# Altium schematic symbol library WE-MK.SchLib: 204 symbols (part 3 of 4)
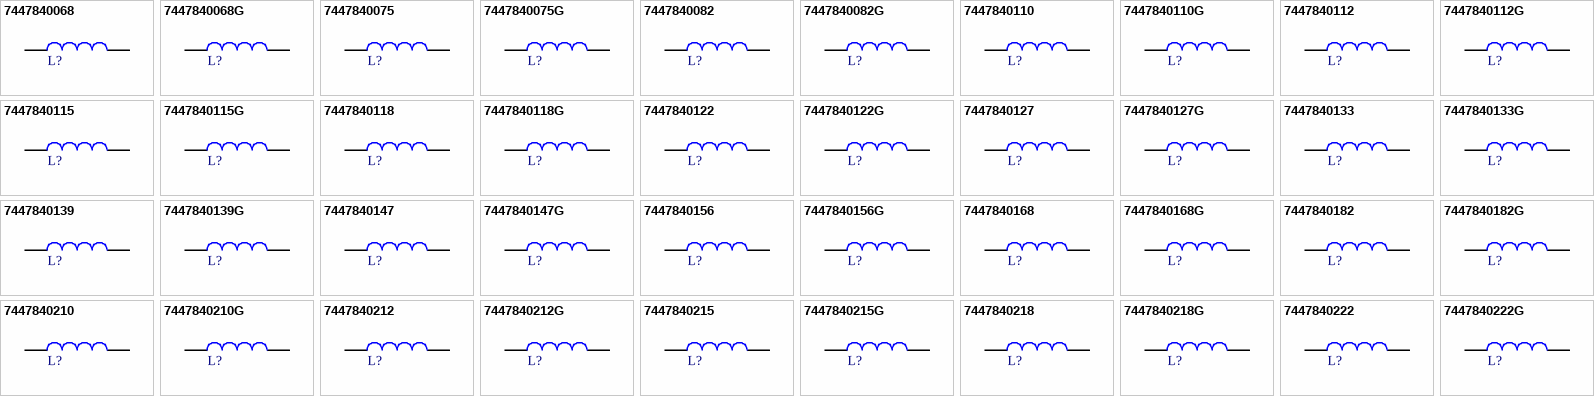
[diagram p7: symbols 7447840068 to 7447840222G]

## 7447840210G
designator L?, comment 100nH  (value not drawn)
WE-MK Multilayer Ceramic SMT Inductor, size 0402, 100nH, 0.15A, 1.6Ohm; Manufacturer Part Number: 7447840210G; Manufacturer: Wurth Elektronik; Case/Size Code: 0402; Inductance Tolerance: +/-2%; Q Factor: 8; Self Resonant Frequency: 600MHz; Category: RF Inductors; Match Code: WE-MK; ComponentLink1Description: Website Link; ComponentLink1URL: https://www.we-online.com/redexpert/article/7447840210G?ad; ComponentLink2Description: Datasheet Link; ComponentLink2URL: https://www.we-online.com/redexpert/spec/7447840210G?ad; Mount: Surface Mount; Operating Temperature Max: 125°C; Operating Temperature Min: -55°C; Packaging: Tape and Reel; Length: 1mm; Width: 0.5mm; Height: 0.5mm; DC Resistance Max: 1.6Ohm; Inductance: 100nH; Rated Current: 0.15A
footprint WE-MK_0402_L1W0.5H0.5
simulation model 0402_7447840210G_100n
pins: 1, 2

## 7447840212
designator L?, comment 120nH  (value not drawn)
WE-MK Multilayer Ceramic SMT Inductor, size 0402, 120nH, 0.15A, 1.6Ohm; Manufacturer Part Number: 7447840212; Manufacturer: Wurth Elektronik; Case/Size Code: 0402; Inductance Tolerance: +/-5%; Q Factor: 8; Self Resonant Frequency: 600MHz; Category: RF Inductors; Match Code: WE-MK; ComponentLink1Description: Website Link; ComponentLink1URL: https://www.we-online.com/redexpert/article/7447840212?ad; ComponentLink2Description: Datasheet Link; ComponentLink2URL: https://www.we-online.com/redexpert/spec/7447840212?ad; Mount: Surface Mount; Operating Temperature Max: 125°C; Operating Temperature Min: -55°C; Packaging: Tape and Reel; Length: 1mm; Width: 0.5mm; Height: 0.5mm; DC Resistance Max: 1.6Ohm; Inductance: 120nH; Rated Current: 0.15A
footprint WE-MK_0402_L1W0.5H0.5
simulation model 0402_7447840212_120n
pins: 1, 2

## 7447840212G
designator L?, comment 120nH  (value not drawn)
WE-MK Multilayer Ceramic SMT Inductor, size 0402, 120nH, 0.15A, 1.6Ohm; Manufacturer Part Number: 7447840212G; Manufacturer: Wurth Elektronik; Case/Size Code: 0402; Inductance Tolerance: +/-2%; Q Factor: 8; Self Resonant Frequency: 600MHz; Category: RF Inductors; Match Code: WE-MK; ComponentLink1Description: Website Link; ComponentLink1URL: https://www.we-online.com/redexpert/article/7447840212G?ad; ComponentLink2Description: Datasheet Link; ComponentLink2URL: https://www.we-online.com/redexpert/spec/7447840212G?ad; Mount: Surface Mount; Operating Temperature Max: 125°C; Operating Temperature Min: -55°C; Packaging: Tape and Reel; Length: 1mm; Width: 0.5mm; Height: 0.5mm; DC Resistance Max: 1.6Ohm; Inductance: 120nH; Rated Current: 0.15A
footprint WE-MK_0402_L1W0.5H0.5
simulation model 0402_7447840212G_120n
pins: 1, 2

## 7447840215
designator L?, comment 150nH  (value not drawn)
WE-MK Multilayer Ceramic SMT Inductor, size 0402, 150nH, 0.14A, 2.99Ohm; Manufacturer Part Number: 7447840215; Manufacturer: Wurth Elektronik; Case/Size Code: 0402; Inductance Tolerance: +/-5%; Q Factor: 8; Self Resonant Frequency: 500MHz; Category: RF Inductors; Match Code: WE-MK; ComponentLink1Description: Website Link; ComponentLink1URL: https://www.we-online.com/redexpert/article/7447840215?ad; ComponentLink2Description: Datasheet Link; ComponentLink2URL: https://www.we-online.com/redexpert/spec/7447840215?ad; Mount: Surface Mount; Operating Temperature Max: 125°C; Operating Temperature Min: -55°C; Packaging: Tape and Reel; Length: 1mm; Width: 0.5mm; Height: 0.5mm; DC Resistance Max: 2.99Ohm; Inductance: 150nH; Rated Current: 0.14A
footprint WE-MK_0402_L1W0.5H0.5
simulation model 0402_7447840215_150n
pins: 1, 2

## 7447840215G
designator L?, comment 150nH  (value not drawn)
WE-MK Multilayer Ceramic SMT Inductor, size 0402, 150nH, 0.14A, 2.99Ohm; Manufacturer Part Number: 7447840215G; Manufacturer: Wurth Elektronik; Case/Size Code: 0402; Inductance Tolerance: +/-2%; Q Factor: 8; Self Resonant Frequency: 500MHz; Category: RF Inductors; Match Code: WE-MK; ComponentLink1Description: Website Link; ComponentLink1URL: https://www.we-online.com/redexpert/article/7447840215G?ad; ComponentLink2Description: Datasheet Link; ComponentLink2URL: https://www.we-online.com/redexpert/spec/7447840215G?ad; Mount: Surface Mount; Operating Temperature Max: 125°C; Operating Temperature Min: -55°C; Packaging: Tape and Reel; Length: 1mm; Width: 0.5mm; Height: 0.5mm; DC Resistance Max: 2.99Ohm; Inductance: 150nH; Rated Current: 0.14A
footprint WE-MK_0402_L1W0.5H0.5
simulation model 0402_7447840215G_150n
pins: 1, 2

## 7447840218
designator L?, comment 180nH  (value not drawn)
WE-MK Multilayer Ceramic SMT Inductor, size 0402, 180nH, 0.15A, 3.38Ohm; Manufacturer Part Number: 7447840218; Manufacturer: Wurth Elektronik; Case/Size Code: 0402; Inductance Tolerance: +/-5%; Q Factor: 8; Self Resonant Frequency: 500MHz; Category: RF Inductors; Match Code: WE-MK; ComponentLink1Description: Website Link; ComponentLink1URL: https://www.we-online.com/redexpert/article/7447840218?ad; ComponentLink2Description: Datasheet Link; ComponentLink2URL: https://www.we-online.com/redexpert/spec/7447840218?ad; Mount: Surface Mount; Operating Temperature Max: 125°C; Operating Temperature Min: -55°C; Packaging: Tape and Reel; Length: 1mm; Width: 0.5mm; Height: 0.5mm; DC Resistance Max: 3.38Ohm; Inductance: 180nH; Rated Current: 0.15A
footprint WE-MK_0402_L1W0.5H0.5
simulation model 0402_7447840218_180n
pins: 1, 2

## 7447840218G
designator L?, comment 180nH  (value not drawn)
WE-MK Multilayer Ceramic SMT Inductor, size 0402, 180nH, 0.15A, 3.38Ohm; Manufacturer Part Number: 7447840218G; Manufacturer: Wurth Elektronik; Case/Size Code: 0402; Inductance Tolerance: +/-2%; Q Factor: 8; Self Resonant Frequency: 500MHz; Category: RF Inductors; Match Code: WE-MK; ComponentLink1Description: Website Link; ComponentLink1URL: https://www.we-online.com/redexpert/article/7447840218G?ad; ComponentLink2Description: Datasheet Link; ComponentLink2URL: https://www.we-online.com/redexpert/spec/7447840218G?ad; Mount: Surface Mount; Operating Temperature Max: 125°C; Operating Temperature Min: -55°C; Packaging: Tape and Reel; Length: 1mm; Width: 0.5mm; Height: 0.5mm; DC Resistance Max: 3.38Ohm; Inductance: 180nH; Rated Current: 0.15A
footprint WE-MK_0402_L1W0.5H0.5
simulation model 0402_7447840218G_180n
pins: 1, 2

## 7447840222
designator L?, comment 220nH  (value not drawn)
WE-MK Multilayer Ceramic SMT Inductor, size 0402, 220nH, 0.12A, 3.77Ohm; Manufacturer Part Number: 7447840222; Manufacturer: Wurth Elektronik; Case/Size Code: 0402; Inductance Tolerance: +/-5%; Q Factor: 8; Self Resonant Frequency: 500MHz; Category: RF Inductors; Match Code: WE-MK; ComponentLink1Description: Website Link; ComponentLink1URL: https://www.we-online.com/redexpert/article/7447840222?ad; ComponentLink2Description: Datasheet Link; ComponentLink2URL: https://www.we-online.com/redexpert/spec/7447840222?ad; Mount: Surface Mount; Operating Temperature Max: 125°C; Operating Temperature Min: -55°C; Packaging: Tape and Reel; Length: 1mm; Width: 0.5mm; Height: 0.5mm; DC Resistance Max: 3.77Ohm; Inductance: 220nH; Rated Current: 0.12A
footprint WE-MK_0402_L1W0.5H0.5
simulation model 0402_7447840222_220n
pins: 1, 2

## 7447840222G
designator L?, comment 220nH  (value not drawn)
WE-MK Multilayer Ceramic SMT Inductor, size 0402, 220nH, 0.12A, 3.77Ohm; Manufacturer Part Number: 7447840222G; Manufacturer: Wurth Elektronik; Case/Size Code: 0402; Inductance Tolerance: +/-2%; Q Factor: 8; Self Resonant Frequency: 500MHz; Category: RF Inductors; Match Code: WE-MK; ComponentLink1Description: Website Link; ComponentLink1URL: https://www.we-online.com/redexpert/article/7447840222G?ad; ComponentLink2Description: Datasheet Link; ComponentLink2URL: https://www.we-online.com/redexpert/spec/7447840222G?ad; Mount: Surface Mount; Operating Temperature Max: 125°C; Operating Temperature Min: -55°C; Packaging: Tape and Reel; Length: 1mm; Width: 0.5mm; Height: 0.5mm; DC Resistance Max: 3.77Ohm; Inductance: 220nH; Rated Current: 0.12A
footprint WE-MK_0402_L1W0.5H0.5
simulation model 0402_7447840222G_220n
pins: 1, 2

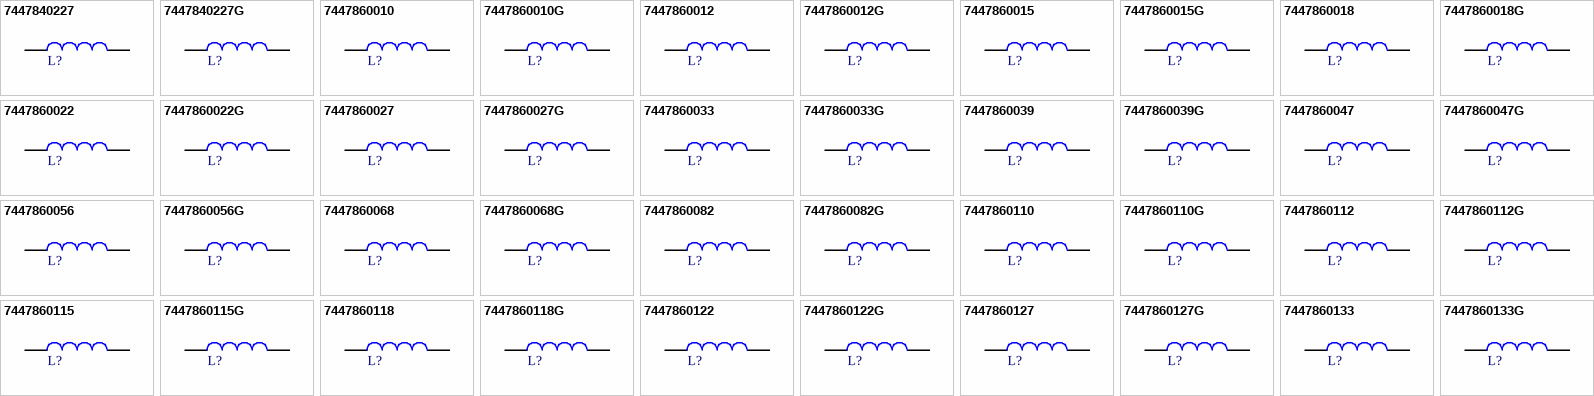
[diagram p3: symbols 7447840227 to 7447860133G]

## 7447840227
designator L?, comment 270nH  (value not drawn)
WE-MK Multilayer Ceramic SMT Inductor, size 0402, 270nH, 0.11A, 4.9Ohm; Manufacturer Part Number: 7447840227; Manufacturer: Wurth Elektronik; Case/Size Code: 0402; Inductance Tolerance: +/-5%; Q Factor: 8; Self Resonant Frequency: 500MHz; Category: RF Inductors; Match Code: WE-MK; ComponentLink1Description: Website Link; ComponentLink1URL: https://www.we-online.com/redexpert/article/7447840227?ad; ComponentLink2Description: Datasheet Link; ComponentLink2URL: https://www.we-online.com/redexpert/spec/7447840227?ad; Mount: Surface Mount; Operating Temperature Max: 125°C; Operating Temperature Min: -55°C; Packaging: Tape and Reel; Length: 1mm; Width: 0.5mm; Height: 0.5mm; DC Resistance Max: 4.9Ohm; Inductance: 270nH; Rated Current: 0.11A
footprint WE-MK_0402_L1W0.5H0.5
simulation model 0402_7447840227_270n
pins: 1, 2

## 7447840227G
designator L?, comment 270nH  (value not drawn)
WE-MK Multilayer Ceramic SMT Inductor, size 0402, 270nH, 0.11A, 4.9Ohm; Manufacturer Part Number: 7447840227G; Manufacturer: Wurth Elektronik; Case/Size Code: 0402; Inductance Tolerance: +/-2%; Q Factor: 8; Self Resonant Frequency: 500MHz; Category: RF Inductors; Match Code: WE-MK; ComponentLink1Description: Website Link; ComponentLink1URL: https://www.we-online.com/redexpert/article/7447840227G?ad; ComponentLink2Description: Datasheet Link; ComponentLink2URL: https://www.we-online.com/redexpert/spec/7447840227G?ad; Mount: Surface Mount; Operating Temperature Max: 125°C; Operating Temperature Min: -55°C; Packaging: Tape and Reel; Length: 1mm; Width: 0.5mm; Height: 0.5mm; DC Resistance Max: 4.9Ohm; Inductance: 270nH; Rated Current: 0.11A
footprint WE-MK_0402_L1W0.5H0.5
simulation model 0402_7447840227G_270n
pins: 1, 2

## 7447860010
designator L?, comment 1nH  (value not drawn)
WE-MK Multilayer Ceramic SMT Inductor, size 0603, 1nH, 1.3A, 0.05Ohm; Manufacturer Part Number: 7447860010; Manufacturer: Wurth Elektronik; Case/Size Code: 0603; Inductance Tolerance: +/-0.3nH; Q Factor: 8; Self Resonant Frequency: 10000MHz; Category: RF Inductors; Match Code: WE-MK; ComponentLink1Description: Website Link; ComponentLink1URL: https://www.we-online.com/redexpert/article/7447860010?ad; ComponentLink2Description: Datasheet Link; ComponentLink2URL: https://www.we-online.com/redexpert/spec/7447860010?ad; Mount: Surface Mount; Operating Temperature Max: 125°C; Operating Temperature Min: -55°C; Packaging: Tape and Reel; Length: 1.6mm; Width: 0.8mm; Height: 0.8mm; DC Resistance Max: 0.05Ohm; Inductance: 1nH; Rated Current: 1.3A
footprint WE-MK_0603_L1.6W0.8H0.8
simulation model 0603_7447860010_1n
pins: 1, 2

## 7447860010G
designator L?, comment 1nH  (value not drawn)
WE-MK Multilayer Ceramic SMT Inductor, size 0603, 1nH, 1.3A, 0.05Ohm; Manufacturer Part Number: 7447860010G; Manufacturer: Wurth Elektronik; Case/Size Code: 0603; Inductance Tolerance: +/-0.1nH; Q Factor: 8; Self Resonant Frequency: 10000MHz; Category: RF Inductors; Match Code: WE-MK; ComponentLink1Description: Website Link; ComponentLink1URL: https://www.we-online.com/redexpert/article/7447860010G?ad; ComponentLink2Description: Datasheet Link; ComponentLink2URL: https://www.we-online.com/redexpert/spec/7447860010G?ad; Mount: Surface Mount; Operating Temperature Max: 125°C; Operating Temperature Min: -55°C; Packaging: Tape and Reel; Length: 1.6mm; Width: 0.8mm; Height: 0.8mm; DC Resistance Max: 0.05Ohm; Inductance: 1nH; Rated Current: 1.3A
footprint WE-MK_0603_L1.6W0.8H0.8
simulation model 0603_7447860010G_1n
pins: 1, 2

## 7447860012
designator L?, comment 1.2nH  (value not drawn)
WE-MK Multilayer Ceramic SMT Inductor, size 0603, 1.2nH, 1.3A, 0.05Ohm; Manufacturer Part Number: 7447860012; Manufacturer: Wurth Elektronik; Case/Size Code: 0603; Inductance Tolerance: +/-0.3nH; Q Factor: 8; Self Resonant Frequency: 10000MHz; Category: RF Inductors; Match Code: WE-MK; ComponentLink1Description: Website Link; ComponentLink1URL: https://www.we-online.com/redexpert/article/7447860012?ad; ComponentLink2Description: Datasheet Link; ComponentLink2URL: https://www.we-online.com/redexpert/spec/7447860012?ad; Mount: Surface Mount; Operating Temperature Max: 125°C; Operating Temperature Min: -55°C; Packaging: Tape and Reel; Length: 1.6mm; Width: 0.8mm; Height: 0.8mm; DC Resistance Max: 0.05Ohm; Inductance: 1.2nH; Rated Current: 1.3A
footprint WE-MK_0603_L1.6W0.8H0.8
simulation model 0603_7447860012_1.2n
pins: 1, 2

## 7447860012G
designator L?, comment 1.2nH  (value not drawn)
WE-MK Multilayer Ceramic SMT Inductor, size 0603, 1.2nH, 1.3A, 0.05Ohm; Manufacturer Part Number: 7447860012G; Manufacturer: Wurth Elektronik; Case/Size Code: 0603; Inductance Tolerance: +/-0.1nH; Q Factor: 8; Self Resonant Frequency: 10000MHz; Category: RF Inductors; Match Code: WE-MK; ComponentLink1Description: Website Link; ComponentLink1URL: https://www.we-online.com/redexpert/article/7447860012G?ad; ComponentLink2Description: Datasheet Link; ComponentLink2URL: https://www.we-online.com/redexpert/spec/7447860012G?ad; Mount: Surface Mount; Operating Temperature Max: 125°C; Operating Temperature Min: -55°C; Packaging: Tape and Reel; Length: 1.6mm; Width: 0.8mm; Height: 0.8mm; DC Resistance Max: 0.05Ohm; Inductance: 1.2nH; Rated Current: 1.3A
footprint WE-MK_0603_L1.6W0.8H0.8
simulation model 0603_7447860012G_1.2n
pins: 1, 2

## 7447860015
designator L?, comment 1.5nH  (value not drawn)
WE-MK Multilayer Ceramic SMT Inductor, size 0603, 1.5nH, 1.3A, 0.1Ohm; Manufacturer Part Number: 7447860015; Manufacturer: Wurth Elektronik; Case/Size Code: 0603; Inductance Tolerance: +/-0.3nH; Q Factor: 8; Self Resonant Frequency: 6000MHz; Category: RF Inductors; Match Code: WE-MK; ComponentLink1Description: Website Link; ComponentLink1URL: https://www.we-online.com/redexpert/article/7447860015?ad; ComponentLink2Description: Datasheet Link; ComponentLink2URL: https://www.we-online.com/redexpert/spec/7447860015?ad; Mount: Surface Mount; Operating Temperature Max: 125°C; Operating Temperature Min: -55°C; Packaging: Tape and Reel; Length: 1.6mm; Width: 0.8mm; Height: 0.8mm; DC Resistance Max: 0.1Ohm; Inductance: 1.5nH; Rated Current: 1.3A
footprint WE-MK_0603_L1.6W0.8H0.8
simulation model 0603_7447860015_1.5n
pins: 1, 2

## 7447860015G
designator L?, comment 1.5nH  (value not drawn)
WE-MK Multilayer Ceramic SMT Inductor, size 0603, 1.5nH, 1.3A, 0.1Ohm; Manufacturer Part Number: 7447860015G; Manufacturer: Wurth Elektronik; Case/Size Code: 0603; Inductance Tolerance: +/-0.1nH; Q Factor: 8; Self Resonant Frequency: 6000MHz; Category: RF Inductors; Match Code: WE-MK; ComponentLink1Description: Website Link; ComponentLink1URL: https://www.we-online.com/redexpert/article/7447860015G?ad; ComponentLink2Description: Datasheet Link; ComponentLink2URL: https://www.we-online.com/redexpert/spec/7447860015G?ad; Mount: Surface Mount; Operating Temperature Max: 125°C; Operating Temperature Min: -55°C; Packaging: Tape and Reel; Length: 1.6mm; Width: 0.8mm; Height: 0.8mm; DC Resistance Max: 0.1Ohm; Inductance: 1.5nH; Rated Current: 1.3A
footprint WE-MK_0603_L1.6W0.8H0.8
simulation model 0603_7447860015G_1.5n
pins: 1, 2

## 7447860018
designator L?, comment 1.8nH  (value not drawn)
WE-MK Multilayer Ceramic SMT Inductor, size 0603, 1.8nH, 1.3A, 0.1Ohm; Manufacturer Part Number: 7447860018; Manufacturer: Wurth Elektronik; Case/Size Code: 0603; Inductance Tolerance: +/-0.3nH; Q Factor: 8; Self Resonant Frequency: 6000MHz; Category: RF Inductors; Match Code: WE-MK; ComponentLink1Description: Website Link; ComponentLink1URL: https://www.we-online.com/redexpert/article/7447860018?ad; ComponentLink2Description: Datasheet Link; ComponentLink2URL: https://www.we-online.com/redexpert/spec/7447860018?ad; Mount: Surface Mount; Operating Temperature Max: 125°C; Operating Temperature Min: -55°C; Packaging: Tape and Reel; Length: 1.6mm; Width: 0.8mm; Height: 0.8mm; DC Resistance Max: 0.1Ohm; Inductance: 1.8nH; Rated Current: 1.3A
footprint WE-MK_0603_L1.6W0.8H0.8
simulation model 0603_7447860018_1.8n
pins: 1, 2

## 7447860018G
designator L?, comment 1.8nH  (value not drawn)
WE-MK Multilayer Ceramic SMT Inductor, size 0603, 1.8nH, 1.3A, 0.1Ohm; Manufacturer Part Number: 7447860018G; Manufacturer: Wurth Elektronik; Case/Size Code: 0603; Inductance Tolerance: +/-0.1nH; Q Factor: 8; Self Resonant Frequency: 6000MHz; Category: RF Inductors; Match Code: WE-MK; ComponentLink1Description: Website Link; ComponentLink1URL: https://www.we-online.com/redexpert/article/7447860018G?ad; ComponentLink2Description: Datasheet Link; ComponentLink2URL: https://www.we-online.com/redexpert/spec/7447860018G?ad; Mount: Surface Mount; Operating Temperature Max: 125°C; Operating Temperature Min: -55°C; Packaging: Tape and Reel; Length: 1.6mm; Width: 0.8mm; Height: 0.8mm; DC Resistance Max: 0.1Ohm; Inductance: 1.8nH; Rated Current: 1.3A
footprint WE-MK_0603_L1.6W0.8H0.8
simulation model 0603_7447860018G_1.8n
pins: 1, 2

## 7447860022
designator L?, comment 2.2nH  (value not drawn)
WE-MK Multilayer Ceramic SMT Inductor, size 0603, 2.2nH, 0.95A, 0.1Ohm; Manufacturer Part Number: 7447860022; Manufacturer: Wurth Elektronik; Case/Size Code: 0603; Inductance Tolerance: +/-0.3nH; Q Factor: 8; Self Resonant Frequency: 6000MHz; Category: RF Inductors; Match Code: WE-MK; ComponentLink1Description: Website Link; ComponentLink1URL: https://www.we-online.com/redexpert/article/7447860022?ad; ComponentLink2Description: Datasheet Link; ComponentLink2URL: https://www.we-online.com/redexpert/spec/7447860022?ad; Mount: Surface Mount; Operating Temperature Max: 125°C; Operating Temperature Min: -55°C; Packaging: Tape and Reel; Length: 1.6mm; Width: 0.8mm; Height: 0.8mm; DC Resistance Max: 0.1Ohm; Inductance: 2.2nH; Rated Current: 0.95A
footprint WE-MK_0603_L1.6W0.8H0.8
simulation model 0603_7447860022_2.2n
pins: 1, 2

## 7447860022G
designator L?, comment 2.2nH  (value not drawn)
WE-MK Multilayer Ceramic SMT Inductor, size 0603, 2.2nH, 0.95A, 0.1Ohm; Manufacturer Part Number: 7447860022G; Manufacturer: Wurth Elektronik; Case/Size Code: 0603; Inductance Tolerance: +/-0.1nH; Q Factor: 8; Self Resonant Frequency: 6000MHz; Category: RF Inductors; Match Code: WE-MK; ComponentLink1Description: Website Link; ComponentLink1URL: https://www.we-online.com/redexpert/article/7447860022G?ad; ComponentLink2Description: Datasheet Link; ComponentLink2URL: https://www.we-online.com/redexpert/spec/7447860022G?ad; Mount: Surface Mount; Operating Temperature Max: 125°C; Operating Temperature Min: -55°C; Packaging: Tape and Reel; Length: 1.6mm; Width: 0.8mm; Height: 0.8mm; DC Resistance Max: 0.1Ohm; Inductance: 2.2nH; Rated Current: 0.95A
footprint WE-MK_0603_L1.6W0.8H0.8
simulation model 0603_7447860022G_2.2n
pins: 1, 2

## 7447860027
designator L?, comment 2.7nH  (value not drawn)
WE-MK Multilayer Ceramic SMT Inductor, size 0603, 2.7nH, 0.95A, 0.1Ohm; Manufacturer Part Number: 7447860027; Manufacturer: Wurth Elektronik; Case/Size Code: 0603; Inductance Tolerance: +/-0.3nH; Q Factor: 10; Self Resonant Frequency: 6000MHz; Category: RF Inductors; Match Code: WE-MK; ComponentLink1Description: Website Link; ComponentLink1URL: https://www.we-online.com/redexpert/article/7447860027?ad; ComponentLink2Description: Datasheet Link; ComponentLink2URL: https://www.we-online.com/redexpert/spec/7447860027?ad; Mount: Surface Mount; Operating Temperature Max: 125°C; Operating Temperature Min: -55°C; Packaging: Tape and Reel; Length: 1.6mm; Width: 0.8mm; Height: 0.8mm; DC Resistance Max: 0.1Ohm; Inductance: 2.7nH; Rated Current: 0.95A
footprint WE-MK_0603_L1.6W0.8H0.8
simulation model 0603_7447860027_2.7n
pins: 1, 2

## 7447860027G
designator L?, comment 2.7nH  (value not drawn)
WE-MK Multilayer Ceramic SMT Inductor, size 0603, 2.7nH, 0.95A, 0.1Ohm; Manufacturer Part Number: 7447860027G; Manufacturer: Wurth Elektronik; Case/Size Code: 0603; Inductance Tolerance: +/-0.1nH; Q Factor: 10; Self Resonant Frequency: 6000MHz; Category: RF Inductors; Match Code: WE-MK; ComponentLink1Description: Website Link; ComponentLink1URL: https://www.we-online.com/redexpert/article/7447860027G?ad; ComponentLink2Description: Datasheet Link; ComponentLink2URL: https://www.we-online.com/redexpert/spec/7447860027G?ad; Mount: Surface Mount; Operating Temperature Max: 125°C; Operating Temperature Min: -55°C; Packaging: Tape and Reel; Length: 1.6mm; Width: 0.8mm; Height: 0.8mm; DC Resistance Max: 0.1Ohm; Inductance: 2.7nH; Rated Current: 0.95A
footprint WE-MK_0603_L1.6W0.8H0.8
simulation model 0603_7447860027G_2.7n
pins: 1, 2

## 7447860033
designator L?, comment 3.3nH  (value not drawn)
WE-MK Multilayer Ceramic SMT Inductor, size 0603, 3.3nH, 0.85A, 0.12Ohm; Manufacturer Part Number: 7447860033; Manufacturer: Wurth Elektronik; Case/Size Code: 0603; Inductance Tolerance: +/-0.3nH; Q Factor: 10; Self Resonant Frequency: 6000MHz; Category: RF Inductors; Match Code: WE-MK; ComponentLink1Description: Website Link; ComponentLink1URL: https://www.we-online.com/redexpert/article/7447860033?ad; ComponentLink2Description: Datasheet Link; ComponentLink2URL: https://www.we-online.com/redexpert/spec/7447860033?ad; Mount: Surface Mount; Operating Temperature Max: 125°C; Operating Temperature Min: -55°C; Packaging: Tape and Reel; Length: 1.6mm; Width: 0.8mm; Height: 0.8mm; DC Resistance Max: 0.12Ohm; Inductance: 3.3nH; Rated Current: 0.85A
footprint WE-MK_0603_L1.6W0.8H0.8
simulation model 0603_7447860033_3.3n
pins: 1, 2

## 7447860033G
designator L?, comment 3.3nH  (value not drawn)
WE-MK Multilayer Ceramic SMT Inductor, size 0603, 3.3nH, 0.85A, 0.12Ohm; Manufacturer Part Number: 7447860033G; Manufacturer: Wurth Elektronik; Case/Size Code: 0603; Inductance Tolerance: +/-0.1nH; Q Factor: 10; Self Resonant Frequency: 6000MHz; Category: RF Inductors; Match Code: WE-MK; ComponentLink1Description: Website Link; ComponentLink1URL: https://www.we-online.com/redexpert/article/7447860033G?ad; ComponentLink2Description: Datasheet Link; ComponentLink2URL: https://www.we-online.com/redexpert/spec/7447860033G?ad; Mount: Surface Mount; Operating Temperature Max: 125°C; Operating Temperature Min: -55°C; Packaging: Tape and Reel; Length: 1.6mm; Width: 0.8mm; Height: 0.8mm; DC Resistance Max: 0.12Ohm; Inductance: 3.3nH; Rated Current: 0.85A
footprint WE-MK_0603_L1.6W0.8H0.8
simulation model 0603_7447860033G_3.3n
pins: 1, 2

## 7447860039
designator L?, comment 3.9nH  (value not drawn)
WE-MK Multilayer Ceramic SMT Inductor, size 0603, 3.9nH, 0.85A, 0.12Ohm; Manufacturer Part Number: 7447860039; Manufacturer: Wurth Elektronik; Case/Size Code: 0603; Inductance Tolerance: +/-0.3nH; Q Factor: 10; Self Resonant Frequency: 6000MHz; Category: RF Inductors; Match Code: WE-MK; ComponentLink1Description: Website Link; ComponentLink1URL: https://www.we-online.com/redexpert/article/7447860039?ad; ComponentLink2Description: Datasheet Link; ComponentLink2URL: https://www.we-online.com/redexpert/spec/7447860039?ad; Mount: Surface Mount; Operating Temperature Max: 125°C; Operating Temperature Min: -55°C; Packaging: Tape and Reel; Length: 1.6mm; Width: 0.8mm; Height: 0.8mm; DC Resistance Max: 0.12Ohm; Inductance: 3.9nH; Rated Current: 0.85A
footprint WE-MK_0603_L1.6W0.8H0.8
simulation model 0603_7447860039_3.9n
pins: 1, 2

## 7447860039G
designator L?, comment 3.9nH  (value not drawn)
WE-MK Multilayer Ceramic SMT Inductor, size 0603, 3.9nH, 0.85A, 0.12Ohm; Manufacturer Part Number: 7447860039G; Manufacturer: Wurth Elektronik; Case/Size Code: 0603; Inductance Tolerance: +/-0.1nH; Q Factor: 10; Self Resonant Frequency: 6000MHz; Category: RF Inductors; Match Code: WE-MK; ComponentLink1Description: Website Link; ComponentLink1URL: https://www.we-online.com/redexpert/article/7447860039G?ad; ComponentLink2Description: Datasheet Link; ComponentLink2URL: https://www.we-online.com/redexpert/spec/7447860039G?ad; Mount: Surface Mount; Operating Temperature Max: 125°C; Operating Temperature Min: -55°C; Packaging: Tape and Reel; Length: 1.6mm; Width: 0.8mm; Height: 0.8mm; DC Resistance Max: 0.12Ohm; Inductance: 3.9nH; Rated Current: 0.85A
footprint WE-MK_0603_L1.6W0.8H0.8
simulation model 0603_7447860039G_3.9n
pins: 1, 2

## 7447860047
designator L?, comment 4.7nH  (value not drawn)
WE-MK Multilayer Ceramic SMT Inductor, size 0603, 4.7nH, 0.7A, 0.14Ohm; Manufacturer Part Number: 7447860047; Manufacturer: Wurth Elektronik; Case/Size Code: 0603; Inductance Tolerance: +/-0.3nH; Q Factor: 10; Self Resonant Frequency: 4000MHz; Category: RF Inductors; Match Code: WE-MK; ComponentLink1Description: Website Link; ComponentLink1URL: https://www.we-online.com/redexpert/article/7447860047?ad; ComponentLink2Description: Datasheet Link; ComponentLink2URL: https://www.we-online.com/redexpert/spec/7447860047?ad; Mount: Surface Mount; Operating Temperature Max: 125°C; Operating Temperature Min: -55°C; Packaging: Tape and Reel; Length: 1.6mm; Width: 0.8mm; Height: 0.8mm; DC Resistance Max: 0.14Ohm; Inductance: 4.7nH; Rated Current: 0.7A
footprint WE-MK_0603_L1.6W0.8H0.8
simulation model 0603_7447860047_4.7n
pins: 1, 2

## 7447860047G
designator L?, comment 4.7nH  (value not drawn)
WE-MK Multilayer Ceramic SMT Inductor, size 0603, 4.7nH, 0.7A, 0.14Ohm; Manufacturer Part Number: 7447860047G; Manufacturer: Wurth Elektronik; Case/Size Code: 0603; Inductance Tolerance: +/-0.1nH; Q Factor: 10; Self Resonant Frequency: 4000MHz; Category: RF Inductors; Match Code: WE-MK; ComponentLink1Description: Website Link; ComponentLink1URL: https://www.we-online.com/redexpert/article/7447860047G?ad; ComponentLink2Description: Datasheet Link; ComponentLink2URL: https://www.we-online.com/redexpert/spec/7447860047G?ad; Mount: Surface Mount; Operating Temperature Max: 125°C; Operating Temperature Min: -55°C; Packaging: Tape and Reel; Length: 1.6mm; Width: 0.8mm; Height: 0.8mm; DC Resistance Max: 0.14Ohm; Inductance: 4.7nH; Rated Current: 0.7A
footprint WE-MK_0603_L1.6W0.8H0.8
simulation model 0603_7447860047G_4.7n
pins: 1, 2

## 7447860056
designator L?, comment 5.6nH  (value not drawn)
WE-MK Multilayer Ceramic SMT Inductor, size 0603, 5.6nH, 0.7A, 0.14Ohm; Manufacturer Part Number: 7447860056; Manufacturer: Wurth Elektronik; Case/Size Code: 0603; Inductance Tolerance: +/-0.3nH; Q Factor: 10; Self Resonant Frequency: 4000MHz; Category: RF Inductors; Match Code: WE-MK; ComponentLink1Description: Website Link; ComponentLink1URL: https://www.we-online.com/redexpert/article/7447860056?ad; ComponentLink2Description: Datasheet Link; ComponentLink2URL: https://www.we-online.com/redexpert/spec/7447860056?ad; Mount: Surface Mount; Operating Temperature Max: 125°C; Operating Temperature Min: -55°C; Packaging: Tape and Reel; Length: 1.6mm; Width: 0.8mm; Height: 0.8mm; DC Resistance Max: 0.14Ohm; Inductance: 5.6nH; Rated Current: 0.7A
footprint WE-MK_0603_L1.6W0.8H0.8
simulation model 0603_7447860056_5.6n
pins: 1, 2

## 7447860056G
designator L?, comment 5.6nH  (value not drawn)
WE-MK Multilayer Ceramic SMT Inductor, size 0603, 5.6nH, 0.7A, 0.14Ohm; Manufacturer Part Number: 7447860056G; Manufacturer: Wurth Elektronik; Case/Size Code: 0603; Inductance Tolerance: +/-0.1nH; Q Factor: 10; Self Resonant Frequency: 4000MHz; Category: RF Inductors; Match Code: WE-MK; ComponentLink1Description: Website Link; ComponentLink1URL: https://www.we-online.com/redexpert/article/7447860056G?ad; ComponentLink2Description: Datasheet Link; ComponentLink2URL: https://www.we-online.com/redexpert/spec/7447860056G?ad; Mount: Surface Mount; Operating Temperature Max: 125°C; Operating Temperature Min: -55°C; Packaging: Tape and Reel; Length: 1.6mm; Width: 0.8mm; Height: 0.8mm; DC Resistance Max: 0.14Ohm; Inductance: 5.6nH; Rated Current: 0.7A
footprint WE-MK_0603_L1.6W0.8H0.8
simulation model 0603_7447860056G_5.6n
pins: 1, 2

## 7447860068
designator L?, comment 6.8nH  (value not drawn)
WE-MK Multilayer Ceramic SMT Inductor, size 0603, 6.8nH, 0.65A, 0.16Ohm; Manufacturer Part Number: 7447860068; Manufacturer: Wurth Elektronik; Case/Size Code: 0603; Inductance Tolerance: +/-5%; Q Factor: 10; Self Resonant Frequency: 4000MHz; Category: RF Inductors; Match Code: WE-MK; ComponentLink1Description: Website Link; ComponentLink1URL: https://www.we-online.com/redexpert/article/7447860068?ad; ComponentLink2Description: Datasheet Link; ComponentLink2URL: https://www.we-online.com/redexpert/spec/7447860068?ad; Mount: Surface Mount; Operating Temperature Max: 125°C; Operating Temperature Min: -55°C; Packaging: Tape and Reel; Length: 1.6mm; Width: 0.8mm; Height: 0.8mm; DC Resistance Max: 0.16Ohm; Inductance: 6.8nH; Rated Current: 0.65A
footprint WE-MK_0603_L1.6W0.8H0.8
simulation model 0603_7447860068_6.8n
pins: 1, 2

## 7447860068G
designator L?, comment 6.8nH  (value not drawn)
WE-MK Multilayer Ceramic SMT Inductor, size 0603, 6.8nH, 0.65A, 0.16Ohm; Manufacturer Part Number: 7447860068G; Manufacturer: Wurth Elektronik; Case/Size Code: 0603; Inductance Tolerance: +/-2%; Q Factor: 10; Self Resonant Frequency: 4000MHz; Category: RF Inductors; Match Code: WE-MK; ComponentLink1Description: Website Link; ComponentLink1URL: https://www.we-online.com/redexpert/article/7447860068G?ad; ComponentLink2Description: Datasheet Link; ComponentLink2URL: https://www.we-online.com/redexpert/spec/7447860068G?ad; Mount: Surface Mount; Operating Temperature Max: 125°C; Operating Temperature Min: -55°C; Packaging: Tape and Reel; Length: 1.6mm; Width: 0.8mm; Height: 0.8mm; DC Resistance Max: 0.16Ohm; Inductance: 6.8nH; Rated Current: 0.65A
footprint WE-MK_0603_L1.6W0.8H0.8
simulation model 0603_7447860068G_6.8n
pins: 1, 2

## 7447860082
designator L?, comment 8.2nH  (value not drawn)
WE-MK Multilayer Ceramic SMT Inductor, size 0603, 8.2nH, 0.65A, 0.16Ohm; Manufacturer Part Number: 7447860082; Manufacturer: Wurth Elektronik; Case/Size Code: 0603; Inductance Tolerance: +/-5%; Q Factor: 10; Self Resonant Frequency: 3500MHz; Category: RF Inductors; Match Code: WE-MK; ComponentLink1Description: Website Link; ComponentLink1URL: https://www.we-online.com/redexpert/article/7447860082?ad; ComponentLink2Description: Datasheet Link; ComponentLink2URL: https://www.we-online.com/redexpert/spec/7447860082?ad; Mount: Surface Mount; Operating Temperature Max: 125°C; Operating Temperature Min: -55°C; Packaging: Tape and Reel; Length: 1.6mm; Width: 0.8mm; Height: 0.8mm; DC Resistance Max: 0.16Ohm; Inductance: 8.2nH; Rated Current: 0.65A
footprint WE-MK_0603_L1.6W0.8H0.8
simulation model 0603_7447860082_8.2n
pins: 1, 2

## 7447860082G
designator L?, comment 8.2nH  (value not drawn)
WE-MK Multilayer Ceramic SMT Inductor, size 0603, 8.2nH, 0.65A, 0.16Ohm; Manufacturer Part Number: 7447860082G; Manufacturer: Wurth Elektronik; Case/Size Code: 0603; Inductance Tolerance: +/-2%; Q Factor: 10; Self Resonant Frequency: 3500MHz; Category: RF Inductors; Match Code: WE-MK; ComponentLink1Description: Website Link; ComponentLink1URL: https://www.we-online.com/redexpert/article/7447860082G?ad; ComponentLink2Description: Datasheet Link; ComponentLink2URL: https://www.we-online.com/redexpert/spec/7447860082G?ad; Mount: Surface Mount; Operating Temperature Max: 125°C; Operating Temperature Min: -55°C; Packaging: Tape and Reel; Length: 1.6mm; Width: 0.8mm; Height: 0.8mm; DC Resistance Max: 0.16Ohm; Inductance: 8.2nH; Rated Current: 0.65A
footprint WE-MK_0603_L1.6W0.8H0.8
simulation model 0603_7447860082G_8.2n
pins: 1, 2

## 7447860110
designator L?, comment 10nH  (value not drawn)
WE-MK Multilayer Ceramic SMT Inductor, size 0603, 10nH, 0.55A, 0.24Ohm; Manufacturer Part Number: 7447860110; Manufacturer: Wurth Elektronik; Case/Size Code: 0603; Inductance Tolerance: +/-5%; Q Factor: 12; Self Resonant Frequency: 3400MHz; Category: RF Inductors; Match Code: WE-MK; ComponentLink1Description: Website Link; ComponentLink1URL: https://www.we-online.com/redexpert/article/7447860110?ad; ComponentLink2Description: Datasheet Link; ComponentLink2URL: https://www.we-online.com/redexpert/spec/7447860110?ad; Mount: Surface Mount; Operating Temperature Max: 125°C; Operating Temperature Min: -55°C; Packaging: Tape and Reel; Length: 1.6mm; Width: 0.8mm; Height: 0.8mm; DC Resistance Max: 0.24Ohm; Inductance: 10nH; Rated Current: 0.55A
footprint WE-MK_0603_L1.6W0.8H0.8
simulation model 0603_7447860110_10n
pins: 1, 2

## 7447860110G
designator L?, comment 10nH  (value not drawn)
WE-MK Multilayer Ceramic SMT Inductor, size 0603, 10nH, 0.55A, 0.24Ohm; Manufacturer Part Number: 7447860110G; Manufacturer: Wurth Elektronik; Case/Size Code: 0603; Inductance Tolerance: +/-2%; Q Factor: 12; Self Resonant Frequency: 3400MHz; Category: RF Inductors; Match Code: WE-MK; ComponentLink1Description: Website Link; ComponentLink1URL: https://www.we-online.com/redexpert/article/7447860110G?ad; ComponentLink2Description: Datasheet Link; ComponentLink2URL: https://www.we-online.com/redexpert/spec/7447860110G?ad; Mount: Surface Mount; Operating Temperature Max: 125°C; Operating Temperature Min: -55°C; Packaging: Tape and Reel; Length: 1.6mm; Width: 0.8mm; Height: 0.8mm; DC Resistance Max: 0.24Ohm; Inductance: 10nH; Rated Current: 0.55A
footprint WE-MK_0603_L1.6W0.8H0.8
simulation model 0603_7447860110G_10n
pins: 1, 2

## 7447860112
designator L?, comment 12nH  (value not drawn)
WE-MK Multilayer Ceramic SMT Inductor, size 0603, 12nH, 0.55A, 0.24Ohm; Manufacturer Part Number: 7447860112; Manufacturer: Wurth Elektronik; Case/Size Code: 0603; Inductance Tolerance: +/-5%; Q Factor: 12; Self Resonant Frequency: 2600MHz; Category: RF Inductors; Match Code: WE-MK; ComponentLink1Description: Website Link; ComponentLink1URL: https://www.we-online.com/redexpert/article/7447860112?ad; ComponentLink2Description: Datasheet Link; ComponentLink2URL: https://www.we-online.com/redexpert/spec/7447860112?ad; Mount: Surface Mount; Operating Temperature Max: 125°C; Operating Temperature Min: -55°C; Packaging: Tape and Reel; Length: 1.6mm; Width: 0.8mm; Height: 0.8mm; DC Resistance Max: 0.24Ohm; Inductance: 12nH; Rated Current: 0.55A
footprint WE-MK_0603_L1.6W0.8H0.8
simulation model 0603_7447860112_12n
pins: 1, 2

## 7447860112G
designator L?, comment 12nH  (value not drawn)
WE-MK Multilayer Ceramic SMT Inductor, size 0603, 12nH, 0.55A, 0.24Ohm; Manufacturer Part Number: 7447860112G; Manufacturer: Wurth Elektronik; Case/Size Code: 0603; Inductance Tolerance: +/-2%; Q Factor: 12; Self Resonant Frequency: 2600MHz; Category: RF Inductors; Match Code: WE-MK; ComponentLink1Description: Website Link; ComponentLink1URL: https://www.we-online.com/redexpert/article/7447860112G?ad; ComponentLink2Description: Datasheet Link; ComponentLink2URL: https://www.we-online.com/redexpert/spec/7447860112G?ad; Mount: Surface Mount; Operating Temperature Max: 125°C; Operating Temperature Min: -55°C; Packaging: Tape and Reel; Length: 1.6mm; Width: 0.8mm; Height: 0.8mm; DC Resistance Max: 0.24Ohm; Inductance: 12nH; Rated Current: 0.55A
footprint WE-MK_0603_L1.6W0.8H0.8
simulation model 0603_7447860112G_12n
pins: 1, 2

## 7447860115
designator L?, comment 15nH  (value not drawn)
WE-MK Multilayer Ceramic SMT Inductor, size 0603, 15nH, 0.55A, 0.24Ohm; Manufacturer Part Number: 7447860115; Manufacturer: Wurth Elektronik; Case/Size Code: 0603; Inductance Tolerance: +/-5%; Q Factor: 12; Self Resonant Frequency: 2300MHz; Category: RF Inductors; Match Code: WE-MK; ComponentLink1Description: Website Link; ComponentLink1URL: https://www.we-online.com/redexpert/article/7447860115?ad; ComponentLink2Description: Datasheet Link; ComponentLink2URL: https://www.we-online.com/redexpert/spec/7447860115?ad; Mount: Surface Mount; Operating Temperature Max: 125°C; Operating Temperature Min: -55°C; Packaging: Tape and Reel; Length: 1.6mm; Width: 0.8mm; Height: 0.8mm; DC Resistance Max: 0.24Ohm; Inductance: 15nH; Rated Current: 0.55A
footprint WE-MK_0603_L1.6W0.8H0.8
simulation model 0603_7447860115_15n
pins: 1, 2

## 7447860115G
designator L?, comment 15nH  (value not drawn)
WE-MK Multilayer Ceramic SMT Inductor, size 0603, 15nH, 0.55A, 0.24Ohm; Manufacturer Part Number: 7447860115G; Manufacturer: Wurth Elektronik; Case/Size Code: 0603; Inductance Tolerance: +/-2%; Q Factor: 12; Self Resonant Frequency: 2300MHz; Category: RF Inductors; Match Code: WE-MK; ComponentLink1Description: Website Link; ComponentLink1URL: https://www.we-online.com/redexpert/article/7447860115G?ad; ComponentLink2Description: Datasheet Link; ComponentLink2URL: https://www.we-online.com/redexpert/spec/7447860115G?ad; Mount: Surface Mount; Operating Temperature Max: 125°C; Operating Temperature Min: -55°C; Packaging: Tape and Reel; Length: 1.6mm; Width: 0.8mm; Height: 0.8mm; DC Resistance Max: 0.24Ohm; Inductance: 15nH; Rated Current: 0.55A
footprint WE-MK_0603_L1.6W0.8H0.8
simulation model 0603_7447860115G_15n
pins: 1, 2

## 7447860118
designator L?, comment 18nH  (value not drawn)
WE-MK Multilayer Ceramic SMT Inductor, size 0603, 18nH, 0.55A, 0.24Ohm; Manufacturer Part Number: 7447860118; Manufacturer: Wurth Elektronik; Case/Size Code: 0603; Inductance Tolerance: +/-5%; Q Factor: 12; Self Resonant Frequency: 2000MHz; Category: RF Inductors; Match Code: WE-MK; ComponentLink1Description: Website Link; ComponentLink1URL: https://www.we-online.com/redexpert/article/7447860118?ad; ComponentLink2Description: Datasheet Link; ComponentLink2URL: https://www.we-online.com/redexpert/spec/7447860118?ad; Mount: Surface Mount; Operating Temperature Max: 125°C; Operating Temperature Min: -55°C; Packaging: Tape and Reel; Length: 1.6mm; Width: 0.8mm; Height: 0.8mm; DC Resistance Max: 0.24Ohm; Inductance: 18nH; Rated Current: 0.55A
footprint WE-MK_0603_L1.6W0.8H0.8
simulation model 0603_7447860118_18n
pins: 1, 2

## 7447860118G
designator L?, comment 18nH  (value not drawn)
WE-MK Multilayer Ceramic SMT Inductor, size 0603, 18nH, 0.55A, 0.24Ohm; Manufacturer Part Number: 7447860118G; Manufacturer: Wurth Elektronik; Case/Size Code: 0603; Inductance Tolerance: +/-2%; Q Factor: 12; Self Resonant Frequency: 2000MHz; Category: RF Inductors; Match Code: WE-MK; ComponentLink1Description: Website Link; ComponentLink1URL: https://www.we-online.com/redexpert/article/7447860118G?ad; ComponentLink2Description: Datasheet Link; ComponentLink2URL: https://www.we-online.com/redexpert/spec/7447860118G?ad; Mount: Surface Mount; Operating Temperature Max: 125°C; Operating Temperature Min: -55°C; Packaging: Tape and Reel; Length: 1.6mm; Width: 0.8mm; Height: 0.8mm; DC Resistance Max: 0.24Ohm; Inductance: 18nH; Rated Current: 0.55A
footprint WE-MK_0603_L1.6W0.8H0.8
simulation model 0603_7447860118G_18n
pins: 1, 2

## 7447860122
designator L?, comment 22nH  (value not drawn)
WE-MK Multilayer Ceramic SMT Inductor, size 0603, 22nH, 0.5A, 0.34Ohm; Manufacturer Part Number: 7447860122; Manufacturer: Wurth Elektronik; Case/Size Code: 0603; Inductance Tolerance: +/-5%; Q Factor: 12; Self Resonant Frequency: 1600MHz; Category: RF Inductors; Match Code: WE-MK; ComponentLink1Description: Website Link; ComponentLink1URL: https://www.we-online.com/redexpert/article/7447860122?ad; ComponentLink2Description: Datasheet Link; ComponentLink2URL: https://www.we-online.com/redexpert/spec/7447860122?ad; Mount: Surface Mount; Operating Temperature Max: 125°C; Operating Temperature Min: -55°C; Packaging: Tape and Reel; Length: 1.6mm; Width: 0.8mm; Height: 0.8mm; DC Resistance Max: 0.34Ohm; Inductance: 22nH; Rated Current: 0.5A
footprint WE-MK_0603_L1.6W0.8H0.8
simulation model 0603_7447860122_22n
pins: 1, 2

## 7447860122G
designator L?, comment 22nH  (value not drawn)
WE-MK Multilayer Ceramic SMT Inductor, size 0603, 22nH, 0.5A, 0.34Ohm; Manufacturer Part Number: 7447860122G; Manufacturer: Wurth Elektronik; Case/Size Code: 0603; Inductance Tolerance: +/-2%; Q Factor: 12; Self Resonant Frequency: 1600MHz; Category: RF Inductors; Match Code: WE-MK; ComponentLink1Description: Website Link; ComponentLink1URL: https://www.we-online.com/redexpert/article/7447860122G?ad; ComponentLink2Description: Datasheet Link; ComponentLink2URL: https://www.we-online.com/redexpert/spec/7447860122G?ad; Mount: Surface Mount; Operating Temperature Max: 125°C; Operating Temperature Min: -55°C; Packaging: Tape and Reel; Length: 1.6mm; Width: 0.8mm; Height: 0.8mm; DC Resistance Max: 0.34Ohm; Inductance: 22nH; Rated Current: 0.5A
footprint WE-MK_0603_L1.6W0.8H0.8
simulation model 0603_7447860122G_22n
pins: 1, 2

## 7447860127
designator L?, comment 27nH  (value not drawn)
WE-MK Multilayer Ceramic SMT Inductor, size 0603, 27nH, 0.5A, 0.34Ohm; Manufacturer Part Number: 7447860127; Manufacturer: Wurth Elektronik; Case/Size Code: 0603; Inductance Tolerance: +/-5%; Q Factor: 12; Self Resonant Frequency: 1400MHz; Category: RF Inductors; Match Code: WE-MK; ComponentLink1Description: Website Link; ComponentLink1URL: https://www.we-online.com/redexpert/article/7447860127?ad; ComponentLink2Description: Datasheet Link; ComponentLink2URL: https://www.we-online.com/redexpert/spec/7447860127?ad; Mount: Surface Mount; Operating Temperature Max: 125°C; Operating Temperature Min: -55°C; Packaging: Tape and Reel; Length: 1.6mm; Width: 0.8mm; Height: 0.8mm; DC Resistance Max: 0.34Ohm; Inductance: 27nH; Rated Current: 0.5A
footprint WE-MK_0603_L1.6W0.8H0.8
simulation model 0603_7447860127_27n
pins: 1, 2

## 7447860127G
designator L?, comment 27nH  (value not drawn)
WE-MK Multilayer Ceramic SMT Inductor, size 0603, 27nH, 0.5A, 0.34Ohm; Manufacturer Part Number: 7447860127G; Manufacturer: Wurth Elektronik; Case/Size Code: 0603; Inductance Tolerance: +/-2%; Q Factor: 12; Self Resonant Frequency: 1400MHz; Category: RF Inductors; Match Code: WE-MK; ComponentLink1Description: Website Link; ComponentLink1URL: https://www.we-online.com/redexpert/article/7447860127G?ad; ComponentLink2Description: Datasheet Link; ComponentLink2URL: https://www.we-online.com/redexpert/spec/7447860127G?ad; Mount: Surface Mount; Operating Temperature Max: 125°C; Operating Temperature Min: -55°C; Packaging: Tape and Reel; Length: 1.6mm; Width: 0.8mm; Height: 0.8mm; DC Resistance Max: 0.34Ohm; Inductance: 27nH; Rated Current: 0.5A
footprint WE-MK_0603_L1.6W0.8H0.8
simulation model 0603_7447860127G_27n
pins: 1, 2

## 7447860133
designator L?, comment 33nH  (value not drawn)
WE-MK Multilayer Ceramic SMT Inductor, size 0603, 33nH, 0.4A, 0.45Ohm; Manufacturer Part Number: 7447860133; Manufacturer: Wurth Elektronik; Case/Size Code: 0603; Inductance Tolerance: +/-5%; Q Factor: 12; Self Resonant Frequency: 1200MHz; Category: RF Inductors; Match Code: WE-MK; ComponentLink1Description: Website Link; ComponentLink1URL: https://www.we-online.com/redexpert/article/7447860133?ad; ComponentLink2Description: Datasheet Link; ComponentLink2URL: https://www.we-online.com/redexpert/spec/7447860133?ad; Mount: Surface Mount; Operating Temperature Max: 125°C; Operating Temperature Min: -55°C; Packaging: Tape and Reel; Length: 1.6mm; Width: 0.8mm; Height: 0.8mm; DC Resistance Max: 0.45Ohm; Inductance: 33nH; Rated Current: 0.4A
footprint WE-MK_0603_L1.6W0.8H0.8
simulation model 0603_7447860133_33n
pins: 1, 2

## 7447860133G
designator L?, comment 33nH  (value not drawn)
WE-MK Multilayer Ceramic SMT Inductor, size 0603, 33nH, 0.4A, 0.45Ohm; Manufacturer Part Number: 7447860133G; Manufacturer: Wurth Elektronik; Case/Size Code: 0603; Inductance Tolerance: +/-2%; Q Factor: 12; Self Resonant Frequency: 1200MHz; Category: RF Inductors; Match Code: WE-MK; ComponentLink1Description: Website Link; ComponentLink1URL: https://www.we-online.com/redexpert/article/7447860133G?ad; ComponentLink2Description: Datasheet Link; ComponentLink2URL: https://www.we-online.com/redexpert/spec/7447860133G?ad; Mount: Surface Mount; Operating Temperature Max: 125°C; Operating Temperature Min: -55°C; Packaging: Tape and Reel; Length: 1.6mm; Width: 0.8mm; Height: 0.8mm; DC Resistance Max: 0.45Ohm; Inductance: 33nH; Rated Current: 0.4A
footprint WE-MK_0603_L1.6W0.8H0.8
simulation model 0603_7447860133G_33n
pins: 1, 2

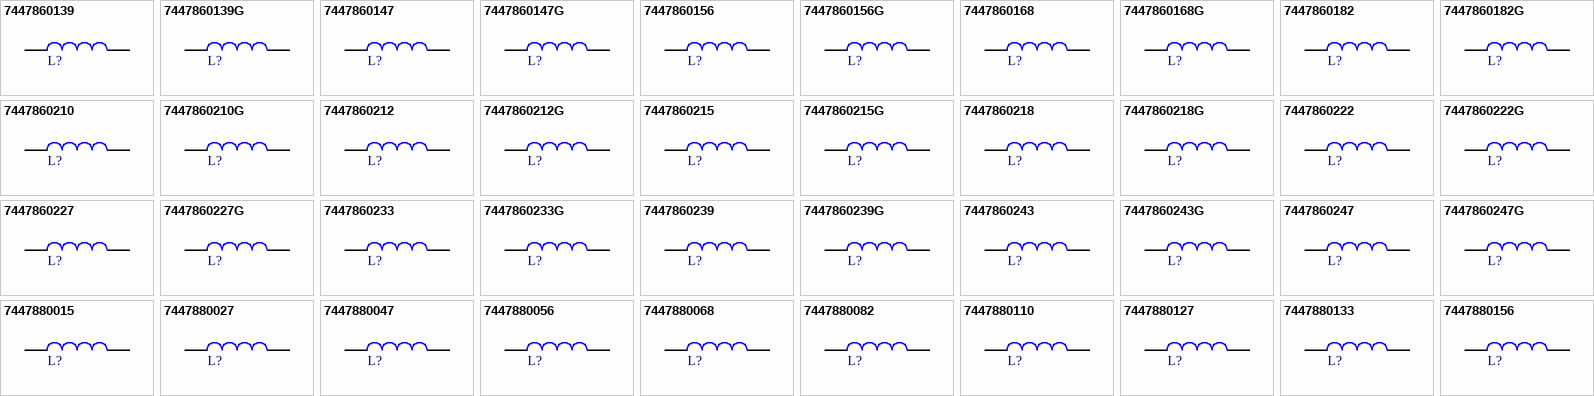
[diagram p4: symbols 7447860139 to 7447880156]

## 7447860139
designator L?, comment 39nH  (value not drawn)
WE-MK Multilayer Ceramic SMT Inductor, size 0603, 39nH, 0.4A, 0.45Ohm; Manufacturer Part Number: 7447860139; Manufacturer: Wurth Elektronik; Case/Size Code: 0603; Inductance Tolerance: +/-5%; Q Factor: 12; Self Resonant Frequency: 1100MHz; Category: RF Inductors; Match Code: WE-MK; ComponentLink1Description: Website Link; ComponentLink1URL: https://www.we-online.com/redexpert/article/7447860139?ad; ComponentLink2Description: Datasheet Link; ComponentLink2URL: https://www.we-online.com/redexpert/spec/7447860139?ad; Mount: Surface Mount; Operating Temperature Max: 125°C; Operating Temperature Min: -55°C; Packaging: Tape and Reel; Length: 1.6mm; Width: 0.8mm; Height: 0.8mm; DC Resistance Max: 0.45Ohm; Inductance: 39nH; Rated Current: 0.4A
footprint WE-MK_0603_L1.6W0.8H0.8
simulation model 0603_7447860139_39n
pins: 1, 2

## 7447860139G
designator L?, comment 39nH  (value not drawn)
WE-MK Multilayer Ceramic SMT Inductor, size 0603, 39nH, 0.4A, 0.45Ohm; Manufacturer Part Number: 7447860139G; Manufacturer: Wurth Elektronik; Case/Size Code: 0603; Inductance Tolerance: +/-2%; Q Factor: 12; Self Resonant Frequency: 1100MHz; Category: RF Inductors; Match Code: WE-MK; ComponentLink1Description: Website Link; ComponentLink1URL: https://www.we-online.com/redexpert/article/7447860139G?ad; ComponentLink2Description: Datasheet Link; ComponentLink2URL: https://www.we-online.com/redexpert/spec/7447860139G?ad; Mount: Surface Mount; Operating Temperature Max: 125°C; Operating Temperature Min: -55°C; Packaging: Tape and Reel; Length: 1.6mm; Width: 0.8mm; Height: 0.8mm; DC Resistance Max: 0.45Ohm; Inductance: 39nH; Rated Current: 0.4A
footprint WE-MK_0603_L1.6W0.8H0.8
simulation model 0603_7447860139G_39n
pins: 1, 2

## 7447860147
designator L?, comment 47nH  (value not drawn)
WE-MK Multilayer Ceramic SMT Inductor, size 0603, 47nH, 0.35A, 0.65Ohm; Manufacturer Part Number: 7447860147; Manufacturer: Wurth Elektronik; Case/Size Code: 0603; Inductance Tolerance: +/-5%; Q Factor: 12; Self Resonant Frequency: 900MHz; Category: RF Inductors; Match Code: WE-MK; ComponentLink1Description: Website Link; ComponentLink1URL: https://www.we-online.com/redexpert/article/7447860147?ad; ComponentLink2Description: Datasheet Link; ComponentLink2URL: https://www.we-online.com/redexpert/spec/7447860147?ad; Mount: Surface Mount; Operating Temperature Max: 125°C; Operating Temperature Min: -55°C; Packaging: Tape and Reel; Length: 1.6mm; Width: 0.8mm; Height: 0.8mm; DC Resistance Max: 0.65Ohm; Inductance: 47nH; Rated Current: 0.35A
footprint WE-MK_0603_L1.6W0.8H0.8
simulation model 0603_7447860147_47n
pins: 1, 2

## 7447860147G
designator L?, comment 47nH  (value not drawn)
WE-MK Multilayer Ceramic SMT Inductor, size 0603, 47nH, 0.35A, 0.65Ohm; Manufacturer Part Number: 7447860147G; Manufacturer: Wurth Elektronik; Case/Size Code: 0603; Inductance Tolerance: +/-2%; Q Factor: 12; Self Resonant Frequency: 900MHz; Category: RF Inductors; Match Code: WE-MK; ComponentLink1Description: Website Link; ComponentLink1URL: https://www.we-online.com/redexpert/article/7447860147G?ad; ComponentLink2Description: Datasheet Link; ComponentLink2URL: https://www.we-online.com/redexpert/spec/7447860147G?ad; Mount: Surface Mount; Operating Temperature Max: 125°C; Operating Temperature Min: -55°C; Packaging: Tape and Reel; Length: 1.6mm; Width: 0.8mm; Height: 0.8mm; DC Resistance Max: 0.65Ohm; Inductance: 47nH; Rated Current: 0.35A
footprint WE-MK_0603_L1.6W0.8H0.8
simulation model 0603_7447860147G_47n
pins: 1, 2

## 7447860156
designator L?, comment 56nH  (value not drawn)
WE-MK Multilayer Ceramic SMT Inductor, size 0603, 56nH, 0.35A, 0.65Ohm; Manufacturer Part Number: 7447860156; Manufacturer: Wurth Elektronik; Case/Size Code: 0603; Inductance Tolerance: +/-5%; Q Factor: 12; Self Resonant Frequency: 900MHz; Category: RF Inductors; Match Code: WE-MK; ComponentLink1Description: Website Link; ComponentLink1URL: https://www.we-online.com/redexpert/article/7447860156?ad; ComponentLink2Description: Datasheet Link; ComponentLink2URL: https://www.we-online.com/redexpert/spec/7447860156?ad; Mount: Surface Mount; Operating Temperature Max: 125°C; Operating Temperature Min: -55°C; Packaging: Tape and Reel; Length: 1.6mm; Width: 0.8mm; Height: 0.8mm; DC Resistance Max: 0.65Ohm; Inductance: 56nH; Rated Current: 0.35A
footprint WE-MK_0603_L1.6W0.8H0.8
simulation model 0603_7447860156_56n
pins: 1, 2

## 7447860156G
designator L?, comment 56nH  (value not drawn)
WE-MK Multilayer Ceramic SMT Inductor, size 0603, 56nH, 0.35A, 0.65Ohm; Manufacturer Part Number: 7447860156G; Manufacturer: Wurth Elektronik; Case/Size Code: 0603; Inductance Tolerance: +/-2%; Q Factor: 12; Self Resonant Frequency: 900MHz; Category: RF Inductors; Match Code: WE-MK; ComponentLink1Description: Website Link; ComponentLink1URL: https://www.we-online.com/redexpert/article/7447860156G?ad; ComponentLink2Description: Datasheet Link; ComponentLink2URL: https://www.we-online.com/redexpert/spec/7447860156G?ad; Mount: Surface Mount; Operating Temperature Max: 125°C; Operating Temperature Min: -55°C; Packaging: Tape and Reel; Length: 1.6mm; Width: 0.8mm; Height: 0.8mm; DC Resistance Max: 0.65Ohm; Inductance: 56nH; Rated Current: 0.35A
footprint WE-MK_0603_L1.6W0.8H0.8
simulation model 0603_7447860156G_56n
pins: 1, 2